# EAGLE library part TCA6424ARGJR (library TCA6424ARGJR)
TCA6424ARGJR, Input Output Controller, 32-Pin UQFN Source: Datasheet <http://www.ti.com/lit/ds/symlink/tca6424a.pdf>
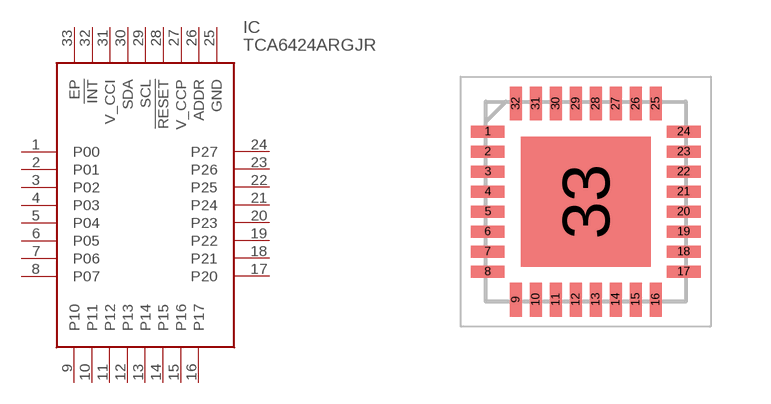
[diagram p0: symbol with the pads of QFN50P500X500X60-33N; footprint QFN50P500X500X60-33N]

Designator prefix IC

## TCA6424ARGJR (Description: TCA6424ARGJR, Input Output Controller, 32-Pin UQFN; Height: 0.6mm; Manufacturer_Name: Texas Instruments; Manufacturer_Part_Number: TCA6424ARGJR; Mouser_Part_Number: 595-TCA6424ARGJR; Mouser_Price-Stock: https://www.mouser.co.uk/ProductDetail/Texas-Instruments/TCA6424ARGJR?qs=Ze4%2FuFuz19LzqLgNFpYqlQ%3D%3D)  [QFN50P500X500X60-33N]
1  P00
2  P01
3  P02
4  P03
5  P04
6  P05
7  P06
8  P07
9  P10
10  P11
11  P12
12  P13
13  P14
14  P15
15  P16
16  P17
17  P20
18  P21
19  P22
20  P23
21  P24
22  P25
23  P26
24  P27
25  GND
26  ADDR
27  V_CCP
28  !RESET
29  SCL
30  SDA
31  V_CCI
32  !INT
33  EP

## Footprint QFN50P500X500X60-33N (pad centres in mm)
RGJ0032A
smd 0.85 x 0.3: 1 -2.45,1.75; 2 -2.45,1.25; 3 -2.45,0.75; 4 -2.45,0.25; 5 -2.45,-0.25; 6 -2.45,-0.75; 7 -2.45,-1.25; 8 -2.45,-1.75; 17 2.45,-1.75; 18 2.45,-1.25; 19 2.45,-0.75; 20 2.45,-0.25; 21 2.45,0.25; 22 2.45,0.75; 23 2.45,1.25; 24 2.45,1.75
smd 0.3 x 0.85: 9 -1.75,-2.45; 10 -1.25,-2.45; 11 -0.75,-2.45; 12 -0.25,-2.45; 13 0.25,-2.45; 14 0.75,-2.45; 15 1.25,-2.45; 16 1.75,-2.45; 25 1.75,2.45; 26 1.25,2.45; 27 0.75,2.45; 28 0.25,2.45; 29 -0.25,2.45; 30 -0.75,2.45; 31 -1.25,2.45; 32 -1.75,2.45
smd 3.25 x 3.25: 33 0,0